# EAGLE library part TL2575HV (library TL2575HV)
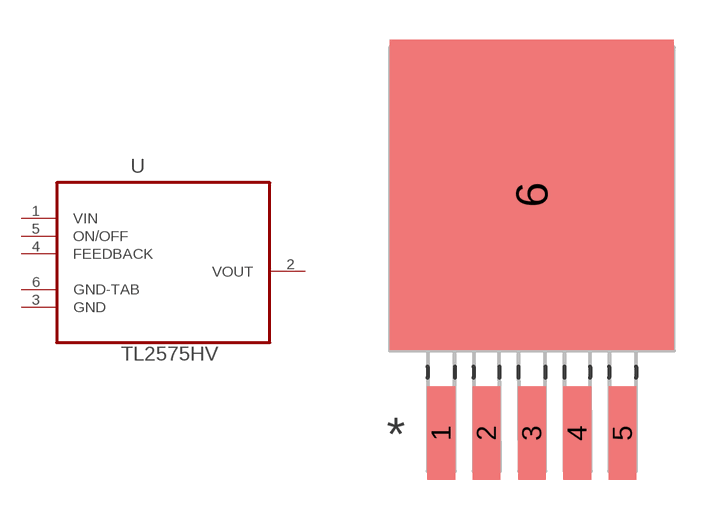
[diagram p0: symbol with the pads of TO-263; footprint TO-263]

Designator prefix -

## TL2575HV, TL2575HV-05IKTTR  [TO-263]
1  VIN  in
2  VOUT  out
3  GND  pas
4  FEEDBACK  in
5  ON/OFF  in
6  GND-TAB  pas

## Footprint TO-263 (pad centres in mm)
smd 1.041 x 3.505: 1 -3.404,-8.788; 2 -1.702,-8.788; 3 0,-8.788; 4 1.702,-8.788; 5 3.404,-8.788
smd 10.668 x 11.659: 6 0,0.152